# Altium footprint library MOLEX_34830-0801.PcbLib: 1 footprints
Each footprint in its own frame and in the unit in brackets; x right, y up, seen from the top. Pads: shape width x height; smd on the part's side, far side on the other; paste and mask are expansions set on the pad; w line width, h text height; cw(c..) or ccw(c..) is an arc to the next point about the centre after c.
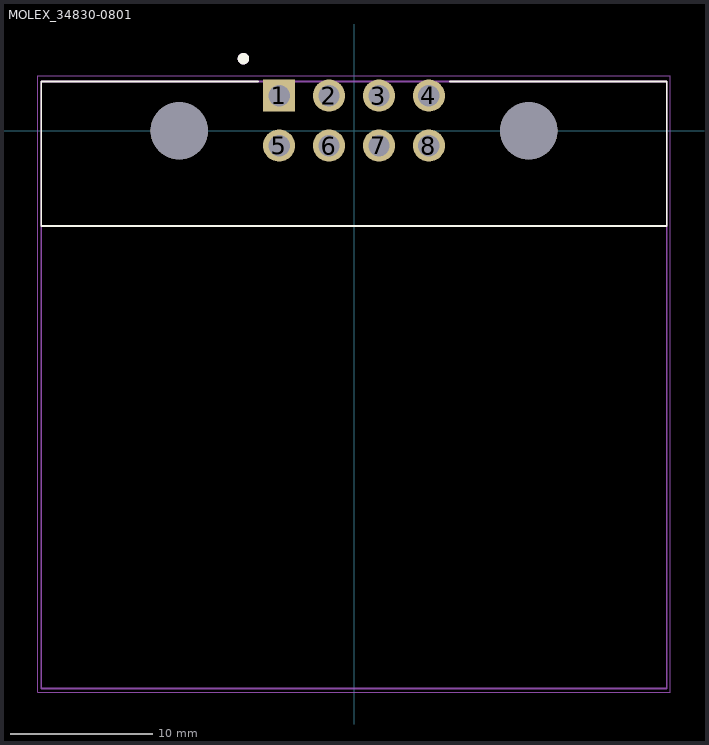
[diagram p0: the footprint, top view; thin cyan lines are the x and y axes]

## MOLEX_34830-0801 [mm]
pads (10):
  rect 2.25x2.25 hole 1.5: 1(-5.25,2.46)
  round 2.25 hole 1.5: 2(-1.75,2.46) 3(1.75,2.46) 4(5.25,2.46) 5(-5.25,-1.04) 6(-1.75,-1.04) 7(1.75,-1.04) 8(5.25,-1.04)
  round 4 hole 4 unplated: ""(-12.25,0) ""(12.25,0)
Top Overlay:
  circle w0.4: c-7.75,5.05 r0.2
  lines w0.127: -6.72,3.46 -21.915,3.46 -21.915,-6.68 21.915,-6.68 21.915,3.46 6.72,3.46
Mechanical 13:
  circle w0.4: c-7.75,5.05 r0.2
  lines w0.127: -21.915,-6.68 -21.915,-39.1 21.915,-39.1 21.915,-6.68 ; -21.915,-6.68 -21.915,3.46 21.915,3.46 21.915,-6.68 ; -21.915,-6.68 21.915,-6.68
  text "PCB EDGE" at 15.4,-6.3 h0.81
Mechanical 15:
  lines w0.05: -22.165,-39.35 22.165,-39.35 22.165,3.86 -22.165,3.86 -22.165,-39.35
3D body "348300801.stp": height 20.99, standoff -5.5, extent -21.361,-39.473 21.33,3.087